# Altium schematic symbol library SCH - PASSIVES - RESISTOR ARRAY (4 CIRCUIT).Schlib: 1 symbol
Pins are listed as number, name and electrical type; pins without a type are passive.

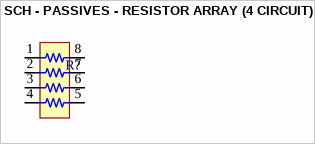
[diagram p0: symbol SCH - PASSIVES - RESISTOR ARRAY (4 CIRCUIT)]

## SCH - PASSIVES - RESISTOR ARRAY (4 CIRCUIT)
designator R?
footprint RES_ARRAY0502_SINGLE
pins: 1, 2, 3, 4, 5, 6, 7, 8